# EAGLE library part PCA9306 (library texas)
TI I2C/SMBus Level Shifter Bidirectional 5V <-> 3V3 Datasheet <http://www.ti.com/lit/ds/symlink/pca9306.pdf>
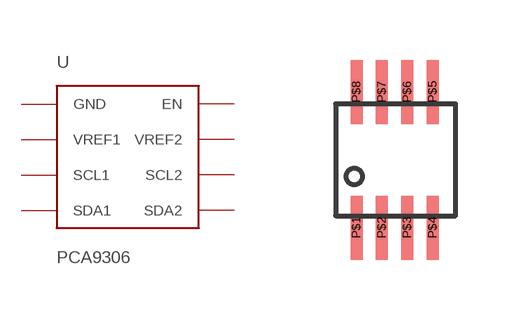
[diagram p130: symbol with the pads of SM8; footprint SM8]

Designator prefix -

## PCA9306DCT  [SM8]
P$1  GND
P$2  VREF1
P$3  SCL1
P$4  SDA1
P$5  SDA2
P$6  SCL2
P$7  VREF2
P$8  EN

## Footprint SM8 (pad centres in mm)
smd 0.3 x 1.6: P$1 -0.975,-1.7; P$2 -0.34,-1.7; P$3 0.295,-1.7; P$4 0.93,-1.7; P$5 0.93,1.7; P$6 0.295,1.7; P$7 -0.34,1.7; P$8 -0.975,1.7